# Altium schematic symbol library XFR,1-1.7,Lp=475uH,760390013.Schlib: 1 symbol
Pins are listed as number, name and electrical type; pins without a type are passive.

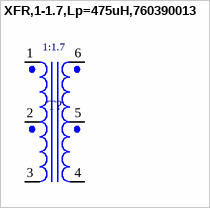
[diagram p0: symbol XFR,1-1.7,Lp=475uH,760390013]

## XFR,1-1.7,Lp=475uH,760390013
designator T?
pins: 1 P+, 2 PCT, 3 P-, 4 S-, 5 SCT, 6 S+
text: 1:1.7